# EAGLE library part I2C-7 (library PIC18F45J10_Board)
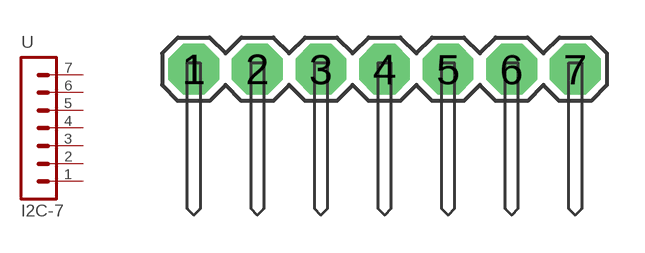
[diagram p11: symbol with the pads of I2C-7; footprint I2C-7]

Designator prefix -

## I2C-7  [I2C-7]
1  1  pas
2  2  pas
3  3  pas
4  4  pas
5  5  pas
6  6  pas
7  7  pas

## Footprint I2C-7 (pad centres in mm)
drill 1.016 pad 2.032 octagon: 1 -7.62,0; 2 -5.08,0; 3 -2.54,0; 4 0,0; 5 2.54,0; 6 5.08,0; 7 7.62,0